# Altium footprint library Miscellaneous Devices LC.PcbLib: 559 footprints (part 35 of 35)
Each footprint in its own frame and in the unit in brackets; x right, y up, seen from the top. Pads: shape width x height; smd on the part's side, far side on the other; paste and mask are expansions set on the pad; w line width, h text height; cw(c..) or ccw(c..) is an arc to the next point about the centre after c.
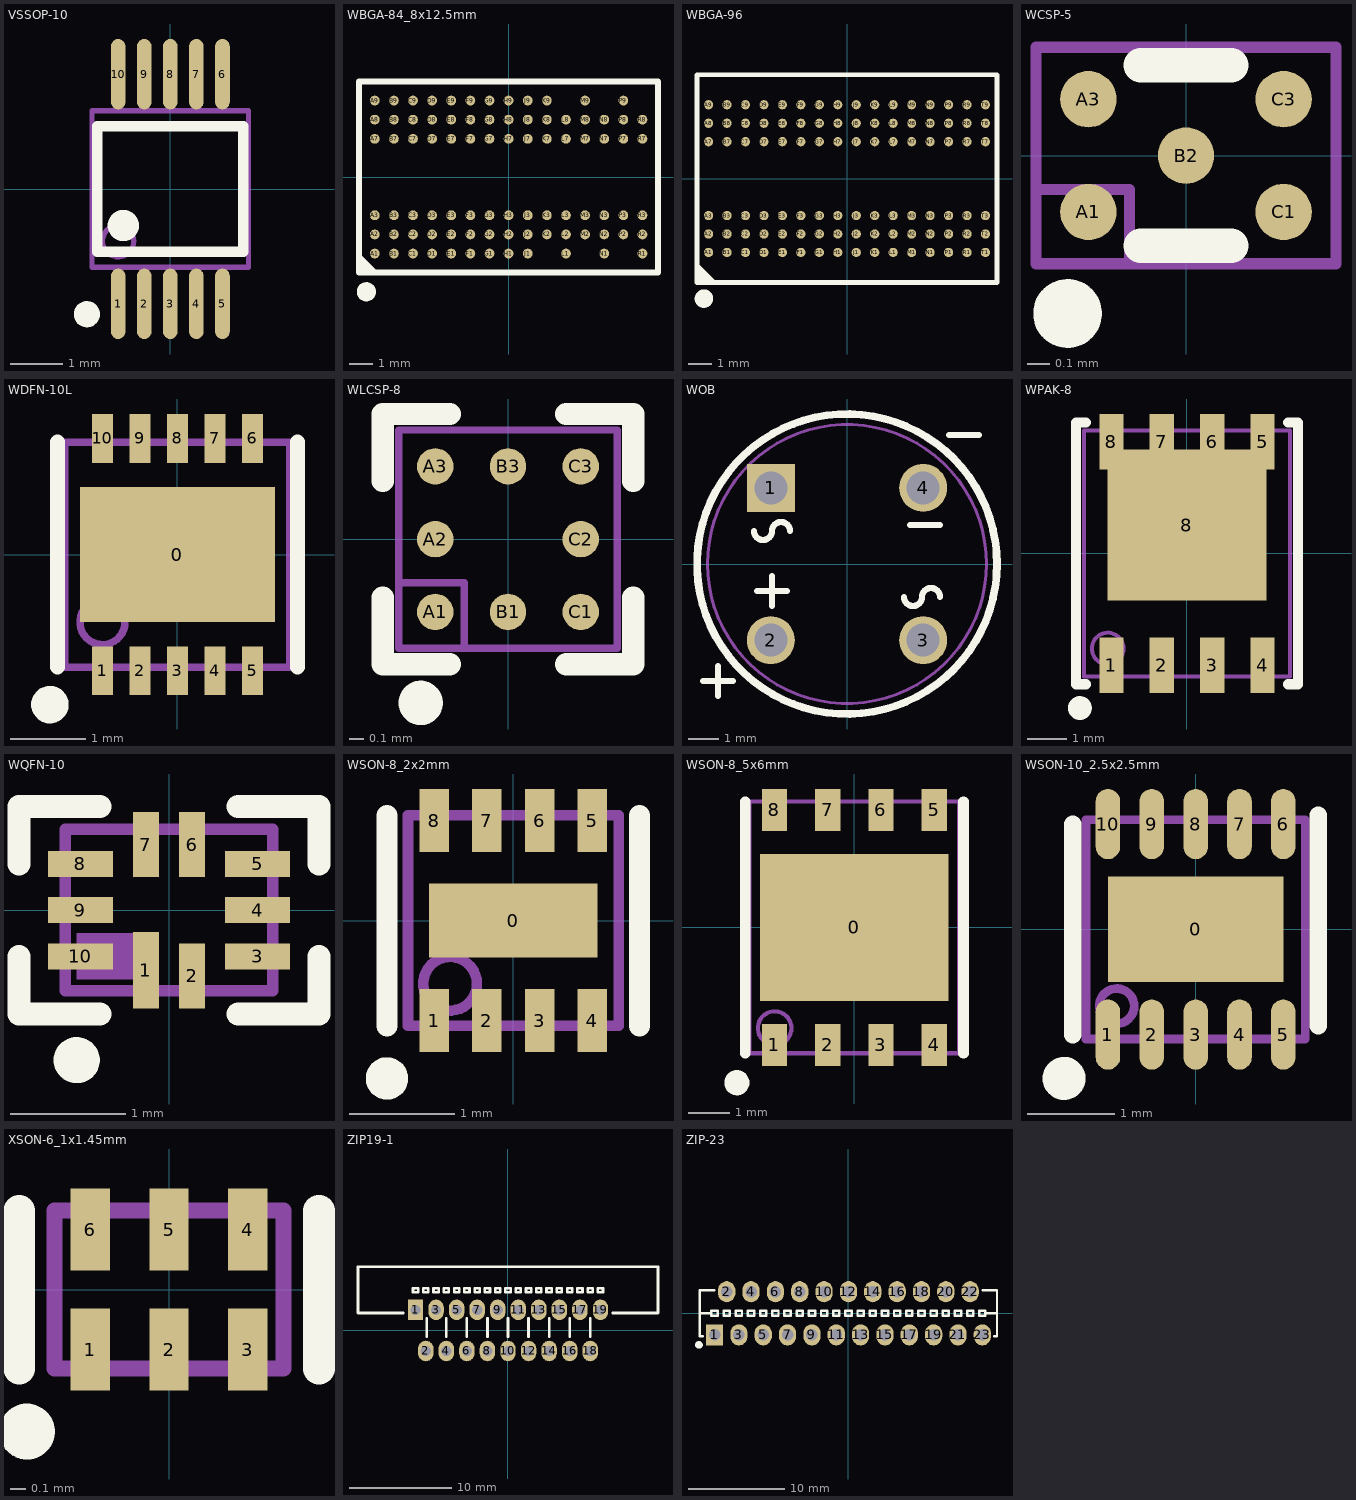
[diagram p34: the footprints below, top view; thin cyan lines are the x and y axes]

## VSSOP-10 [mm]
pads (10):
  oval 0.28x1.35 smd mask+0.051: 1(-1,-2.2) 2(-0.5,-2.2) 3(0,-2.2) 4(0.5,-2.2) 5(1,-2.2) 6(1,2.2) 7(0.5,2.2) 8(0,2.2) 9(-0.5,2.2) 10(-1,2.2)
Top Overlay:
  circle w0.25: c-1.6,-2.4 r0.125
  circle w0.35: c-0.9,-0.7 r0.125
  lines w0.2: -1.4,-1.2 -1.4,1.2 1.4,1.2 1.4,-1.2 -1.4,-1.2
Mechanical 13:
  circle w0.1: c-1,-1 r0.3
  lines w0.1: -1.5,-1.5 -1.5,1.5 1.5,1.5 1.5,-1.5 -1.5,-1.5

## WBGA-84_8x12.5mm [mm]
pads (84):
  round 0.41 smd mask+0.051: A1(-5.6,-3.2) A2(-5.6,-2.4) A3(-5.6,-1.6) A7(-5.6,1.6) A8(-5.6,2.4) A9(-5.6,3.2) B1(-4.8,-3.2) B2(-4.8,-2.4) B3(-4.8,-1.6) B7(-4.8,1.6) B8(-4.8,2.4) B9(-4.8,3.2) C1(-4,-3.2) C2(-4,-2.4) C3(-4,-1.6) C7(-4,1.6) C8(-4,2.4) C9(-4,3.2) D1(-3.2,-3.2) D2(-3.2,-2.4) D3(-3.2,-1.6) D7(-3.2,1.6) D8(-3.2,2.4) D9(-3.2,3.2) E1(-2.4,-3.2) E2(-2.4,-2.4) E3(-2.4,-1.6) E7(-2.4,1.6) E8(-2.4,2.4) E9(-2.4,3.2) F1(-1.6,-3.2) F2(-1.6,-2.4) F3(-1.6,-1.6) F7(-1.6,1.6) F8(-1.6,2.4) F9(-1.6,3.2) G1(-0.8,-3.2) G2(-0.8,-2.4) G3(-0.8,-1.6) G7(-0.8,1.6) G8(-0.8,2.4) G9(-0.8,3.2) H1(0,-3.2) H2(0,-2.4) H3(0,-1.6) H7(0,1.6) H8(0,2.4) H9(0,3.2) J1(0.8,-3.2) J2(0.8,-2.4) J3(0.8,-1.6) J7(0.8,1.6) J8(0.8,2.4) J9(0.8,3.2) K2(1.6,-2.4) K3(1.6,-1.6) K7(1.6,1.6) K8(1.6,2.4) K9(1.6,3.2) L1(2.4,-3.2) L2(2.4,-2.4) L3(2.4,-1.6) L7(2.4,1.6) L8(2.4,2.4) M2(3.2,-2.4) M3(3.2,-1.6) M7(3.2,1.6) M8(3.2,2.4) M9(3.2,3.2) N1(4,-3.2) N2(4,-2.4) N3(4,-1.6) N7(4,1.6) N8(4,2.4) P2(4.8,-2.4) P3(4.8,-1.6) P7(4.8,1.6) P8(4.8,2.4) P9(4.8,3.2) R1(5.6,-3.2) R2(5.6,-2.4) R3(5.6,-1.6) R7(5.6,1.6) R8(5.6,2.4)
Top Overlay:
  circle w0.4: c-5.95,-4.8 r0.2
  region: -6.3,-4.07 -5.369,-4.07 -6.296,-3.143 -6.3,-3.143
  lines w0.254: -6.25,-4 6.25,-4 6.25,4 -6.25,4 -6.25,-4

## WBGA-96 [mm]
pads (96):
  round 0.4 smd mask+0.051: A1(-6,-3.2) A2(-6,-2.4) A3(-6,-1.6) A7(-6,1.6) A8(-6,2.4) A9(-6,3.2) B1(-5.2,-3.2) B2(-5.2,-2.4) B3(-5.2,-1.6) B7(-5.2,1.6) B8(-5.2,2.4) B9(-5.2,3.2) C1(-4.4,-3.2) C2(-4.4,-2.4) C3(-4.4,-1.6) C7(-4.4,1.6) C8(-4.4,2.4) C9(-4.4,3.2) D1(-3.6,-3.2) D2(-3.6,-2.4) D3(-3.6,-1.6) D7(-3.6,1.6) D8(-3.6,2.4) D9(-3.6,3.2) E1(-2.8,-3.2) E2(-2.8,-2.4) E3(-2.8,-1.6) E7(-2.8,1.6) E8(-2.8,2.4) E9(-2.8,3.2) F1(-2,-3.2) F2(-2,-2.4) F3(-2,-1.6) F7(-2,1.6) F8(-2,2.4) F9(-2,3.2) G1(-1.2,-3.2) G2(-1.2,-2.4) G3(-1.2,-1.6) G7(-1.2,1.6) G8(-1.2,2.4) G9(-1.2,3.2) H1(-0.4,-3.2) H2(-0.4,-2.4) H3(-0.4,-1.6) H7(-0.4,1.6) H8(-0.4,2.4) H9(-0.4,3.2) J1(0.4,-3.2) J2(0.4,-2.4) J3(0.4,-1.6) J7(0.4,1.6) J8(0.4,2.4) J9(0.4,3.2) K1(1.2,-3.2) K2(1.2,-2.4) K3(1.2,-1.6) K7(1.2,1.6) K8(1.2,2.4) K9(1.2,3.2) L1(2,-3.2) L2(2,-2.4) L3(2,-1.6) L7(2,1.6) L8(2,2.4) L9(2,3.2) M1(2.8,-3.2) M2(2.8,-2.4) M3(2.8,-1.6) M7(2.8,1.6) M8(2.8,2.4) M9(2.8,3.2) N1(3.6,-3.2) N2(3.6,-2.4) N3(3.6,-1.6) N7(3.6,1.6) N8(3.6,2.4) N9(3.6,3.2) P1(4.4,-3.2) P2(4.4,-2.4) P3(4.4,-1.6) P7(4.4,1.6) P8(4.4,2.4) P9(4.4,3.2) R1(5.2,-3.2) R2(5.2,-2.4) R3(5.2,-1.6) R7(5.2,1.6) R8(5.2,2.4) R9(5.2,3.2) T1(6,-3.2) T2(6,-2.4) T3(6,-1.6) T7(6,1.6) T8(6,2.4) T9(6,3.2)
Top Overlay:
  circle w0.4: c-6.2,-5.2 r0.2
  region: -6.5,-4.563 -5.569,-4.563 -6.496,-3.637 -6.5,-3.637
  lines w0.2: -6.5,-4.5 -6.5,4.5 6.5,4.5 6.5,-4.5 -6.5,-4.5

## WCSP-5 [mm]
pads (5):
  round 0.25 smd mask+0.051: A1(-0.433,-0.25) A3(-0.433,0.25) B2(0,0) C1(0.433,-0.25) C3(0.433,0.25)
Top Overlay:
  circle w0.152: c-0.525,-0.7 r0.076
  lines w0.152: -0.2,-0.4 0.2,-0.4 ; -0.2,0.4 0.2,0.4
Mechanical 13:
  lines w0.05: -0.665,-0.15 -0.25,-0.15 -0.25,-0.48 ; -0.665,-0.48 0.665,-0.48 0.665,0.48 -0.665,0.48 -0.665,-0.48

## WDFN-10L [mm]
pads (11):
  rect 2.6x1.8 smd mask+0.051: 0(0,0)
  rect 0.28x0.65 smd mask+0.051: 1(-1,-1.55) 2(-0.5,-1.55) 3(0,-1.55) 4(0.5,-1.55) 5(1,-1.55) 6(1,1.55) 7(0.5,1.55) 8(0,1.55) 9(-0.5,1.55) 10(-1,1.55)
Top Overlay:
  circle w0.25: c-1.7,-2 r0.125
  lines w0.2: -1.6,-1.5 -1.6,1.5 ; 1.6,-1.5 1.6,1.5
Mechanical 13:
  circle w0.1: c-1,-0.9 r0.3
  lines w0.1: -1.5,-1.5 1.5,-1.5 1.5,1.5 -1.5,1.5 -1.5,-1.5

## WLCSP-8 [mm]
pads (8):
  round 0.25 smd mask+0.051: A1(-0.5,-0.5) A2(-0.5,0) A3(-0.5,0.5) B1(0,-0.5) B3(0,0.5) C1(0.5,-0.5) C2(0.5,0) C3(0.5,0.5)
Top Overlay:
  circle w0.152: c-0.6,-1.125 r0.076
  lines w0.152: -0.86,-0.4 -0.86,-0.86 -0.4,-0.86 ; -0.86,0.4 -0.86,0.86 -0.4,0.86 ; 0.4,-0.86 0.86,-0.86 0.86,-0.4 ; 0.4,0.86 0.86,0.86 0.86,0.4
Mechanical 13:
  lines w0.05: -0.75,-0.3 -0.3,-0.3 -0.3,-0.75 ; -0.75,-0.75 0.75,-0.75 0.75,0.75 -0.75,0.75 -0.75,-0.75

## WOB [mm]
pads (4):
  rect 1.6x1.6 hole 1.1: 1(-2.54,2.54)
  round 1.6 hole 1.1: 2(-2.54,-2.54) 3(2.54,-2.54) 4(2.54,2.54)
Top Overlay:
  circle w0.254: c0,0 r5
  lines w0.203: -4.8,-3.9 -3.8,-3.9 ; -4.3,-4.4 -4.3,-3.4 ; -3.1,1.1 ccw(c-2.8,1.1) -2.5,1.1 cw(c-2.2,1.1) -1.9,1.1 ; -3,-0.9 -2,-0.9 ; -2.5,-1.4 -2.5,-0.4 ; 1.9,-1.1 ccw(c2.2,-1.1) 2.5,-1.1 cw(c2.8,-1.1) 3.1,-1.1 ; 2.1,1.3 3.1,1.3 ; 3.4,4.3 4.4,4.3
Mechanical 13:
  circle w0.1: c0,0 r4.65

## WPAK-8 [mm]
pads (9):
  rect 0.61x1.4 smd: 1(-1.905,-2.816) 2(-0.635,-2.816) 3(0.635,-2.816) 4(1.905,-2.816) 5(1.905,2.816) 6(0.635,2.816) 7(-0.635,2.816) 8(-1.905,2.816)
  rect 4x3.81 smd: 8(0,0.716)
Top Overlay:
  circle w0.3: c-2.7,-3.9 r0.15
  lines w0.254: -2.55,-3.3 -2.8,-3.3 -2.8,3.3 -2.55,3.3 ; 2.55,-3.3 2.8,-3.3 2.8,3.3 2.55,3.3
Mechanical 13:
  circle w0.1: c-2,-2.4 r0.4
  lines w0.1: -2.6,-3.1 -2.6,3.1 2.6,3.1 2.6,-3.1 -2.6,-3.1

## WQFN-10 [mm]
pads (10):
  rect 0.225x0.663 smd mask+0.051: 1(-0.2,-0.519)
  rect 0.225x0.563 smd mask+0.051: 2(0.2,-0.569) 6(0.2,0.569) 7(-0.2,0.569)
  rect 0.563x0.225 smd mask+0.051: 3(0.768,-0.4) 4(0.768,0) 5(0.768,0.4) 8(-0.768,0.4) 9(-0.768,0) 10(-0.768,-0.4)
Top Overlay:
  circle w0.2: c-0.8,-1.3 r0.1
  lines w0.2: -1.3,-0.4 -1.3,-0.9 -0.6,-0.9 ; -1.3,0.4 -1.3,0.9 -0.6,0.9 ; 0.6,-0.9 1.3,-0.9 1.3,-0.4 ; 0.6,0.9 1.3,0.9 1.3,0.4
Mechanical 13:
  region: -0.3,-0.6 -0.3,-0.2 -0.8,-0.2 -0.8,-0.6
  lines w0.1: -0.9,-0.7 0.9,-0.7 0.9,0.7 -0.9,0.7 -0.9,-0.7

## WSON-8_2x2mm [mm]
pads (9):
  rect 1.6x0.7 smd mask+0.051: 0(0,0)
  rect 0.28x0.6 smd mask+0.051: 1(-0.75,-0.95) 2(-0.25,-0.95) 3(0.25,-0.95) 4(0.75,-0.95) 5(0.75,0.95) 6(0.25,0.95) 7(-0.25,0.95) 8(-0.75,0.95)
Top Overlay:
  circle w0.203: c-1.2,-1.5 r0.1
  lines w0.2: -1.2,-1 -1.2,1 ; 1.2,-1 1.2,1
Mechanical 13:
  circle w0.1: c-0.6,-0.6 r0.255
  lines w0.1: -1,-1 -1,1 1,1 1,-1 -1,-1

## WSON-8_5x6mm [mm]
pads (9):
  rect 4.5x3.5 smd: 0(0,0)
  rect 0.6x1 smd: 1(-1.905,-2.8) 2(-0.635,-2.8) 3(0.635,-2.8) 4(1.905,-2.8) 5(1.905,2.8) 6(0.635,2.8) 7(-0.635,2.8) 8(-1.905,2.8)
Top Overlay:
  circle w0.3: c-2.8,-3.7 r0.15
  lines w0.254: -2.6,-3 -2.6,3 ; 2.6,-3 2.6,3
Mechanical 13:
  circle w0.1: c-1.9,-2.4 r0.4
  lines w0.1: -2.5,-3 -2.5,3 2.5,3 2.5,-3 -2.5,-3

## WSON-10_2.5x2.5mm [mm]
pads (11):
  rect 2x1.2 smd mask+0.051: 0(0,0)
  oval 0.28x0.8 smd paste-0.025 mask+0.051: 1(-1,-1.2) 2(-0.5,-1.2) 3(0,-1.2) 4(0.5,-1.2) 5(1,-1.2) 6(1,1.2) 7(0.5,1.2) 8(0,1.2) 9(-0.5,1.2) 10(-1,1.2)
Top Overlay:
  circle w0.25: c-1.5,-1.7 r0.12
  lines w0.2: -1.4,-1.2 -1.4,1.2 ; 1.4,-1.1 1.4,1.3
Mechanical 13:
  circle w0.1: c-0.9,-0.875 r0.2
  lines w0.1: -1.25,-1.25 -1.25,1.25 1.25,1.25 1.25,-1.25 -1.25,-1.25

## XSON-6_1x1.45mm [mm]
pads (6):
  rect 0.25x0.52 smd mask+0.051: 1(-0.5,-0.38) 2(0,-0.38) 3(0.5,-0.38) 4(0.5,0.38) 5(0,0.38) 6(-0.5,0.38)
Top Overlay:
  circle w0.254: c-0.9,-0.9 r0.05
  lines w0.2: -0.95,-0.5 -0.95,0.5 ; 0.95,-0.5 0.95,0.5
Mechanical 13:
  lines w0.1: -0.725,-0.5 0.725,-0.5 0.725,0.5 -0.725,0.5 -0.725,-0.5

## ZIP19-1 [mm]
pads (19):
  rect 1.5x2 hole 1: 1(-9,2)
  oval 1.5x2 hole 1: 2(-8,-2) 3(-7,2) 4(-6,-2) 5(-5,2) 6(-4,-2) 7(-3,2) 8(-2,-2) 9(-1,2) 10(0,-2) 11(1,2) 12(2,-2) 13(3,2) 14(4,-2) 15(5,2) 16(6,-2) 17(7,2) 18(8,-2) 19(9,2)
Top Overlay:
  lines w0.254: -10.2,1.7 -14.6,1.7 -14.6,6.2 14.6,6.2 14.6,1.7 10.2,1.7 ; -7.9,-0.6 -7.9,1.2 ; -6,-0.6 -6,1.2 ; -4,-0.6 -4,1.2 ; -2,-0.6 -2,1.2 ; 0,-0.6 0,1.2 ; 2,-0.6 2,1.2 ; 4,-0.6 4,1.2 ; 6,-0.6 6,1.2 ; 8,-0.6 8,1.2 ; -9.25,3.7 -8.75,3.7 -8.75,4.1 -9.25,4.1 -9.25,3.7 ; -8.25,3.7 -8.25,4.1 -7.75,4.1 -7.75,3.7 -8.25,3.7 ; -7.25,3.7 -6.75,3.7 -6.75,4.1 -7.25,4.1 -7.25,3.7 ; -6.25,3.7 -6.25,4.1 -5.75,4.1 -5.75,3.7 -6.25,3.7 ; -5.25,3.7 -4.75,3.7 -4.75,4.1 -5.25,4.1 -5.25,3.7 ; -4.25,3.7 -4.25,4.1 -3.75,4.1 -3.75,3.7 -4.25,3.7 ; -3.25,3.7 -2.75,3.7 -2.75,4.1 -3.25,4.1 -3.25,3.7 ; -2.25,3.7 -2.25,4.1 -1.75,4.1 -1.75,3.7 -2.25,3.7 ; -1.25,3.7 -1.25,4.1 -0.75,4.1 -0.75,3.7 -1.25,3.7 ; -0.25,3.7 0.25,3.7 0.25,4.1 -0.25,4.1 -0.25,3.7 ; 0.75,3.7 1.25,3.7 1.25,4.1 0.75,4.1 0.75,3.7 ; 1.75,3.7 1.75,4.1 2.25,4.1 2.25,3.7 1.75,3.7 ; 2.75,3.7 3.25,3.7 3.25,4.1 2.75,4.1 2.75,3.7 ; 3.75,3.7 3.75,4.1 4.25,4.1 4.25,3.7 3.75,3.7 ; 4.75,3.7 5.25,3.7 5.25,4.1 4.75,4.1 4.75,3.7 ; 5.75,3.7 5.75,4.1 6.25,4.1 6.25,3.7 5.75,3.7 ; 6.75,3.7 7.25,3.7 7.25,4.1 6.75,4.1 6.75,3.7 ; 7.75,3.7 7.75,4.1 8.25,4.1 8.25,3.7 7.75,3.7 ; 8.75,3.7 9.25,3.7 9.25,4.1 8.75,4.1 8.75,3.7

## ZIP-23 [mm]
pads (23):
  rect 1.8x2.2 hole 1.2: 1(-13.97,-2.25)
  oval 1.8x2.2 hole 1.2: 2(-12.7,2.25) 3(-11.43,-2.25) 4(-10.16,2.25) 5(-8.89,-2.25) 6(-7.62,2.25) 7(-6.35,-2.25) 8(-5.08,2.25) 9(-3.81,-2.25) 10(-2.54,2.25) 11(-1.27,-2.25) 12(0,2.25) 13(1.27,-2.25) 14(2.54,2.25) 15(3.81,-2.25) 16(5.08,2.25) 17(6.35,-2.25) 18(7.62,2.25) 19(8.89,-2.25) 20(10.16,2.25) 21(11.43,-2.25) 22(12.7,2.25) 23(13.97,-2.25)
Top Overlay:
  circle w0.4: c-15.6,-3.3 r0.2
  lines w0.254: -15.5,0 -14.5,0 ; -15.2,-2.4 -15.5,-2.4 -15.5,2.4 -14,2.4 ; 14,2.4 15.5,2.4 15.5,-2.4 15.2,-2.4 ; 14.5,0 15.5,0 ; -14.295,-0.275 -14.295,0.275 -13.645,0.275 -13.645,-0.275 -14.295,-0.275 ; -13.025,-0.275 -12.375,-0.275 -12.375,0.275 -13.025,0.275 -13.025,-0.275 ; -11.755,-0.275 -11.755,0.275 -11.105,0.275 -11.105,-0.275 -11.755,-0.275 ; -10.485,-0.275 -9.835,-0.275 -9.835,0.275 -10.485,0.275 -10.485,-0.275 ; -9.215,-0.275 -9.215,0.275 -8.565,0.275 -8.565,-0.275 -9.215,-0.275 ; -7.945,-0.275 -7.295,-0.275 -7.295,0.275 -7.945,0.275 -7.945,-0.275 ; -6.675,-0.275 -6.675,0.275 -6.025,0.275 -6.025,-0.275 -6.675,-0.275 ; -5.405,-0.275 -4.755,-0.275 -4.755,0.275 -5.405,0.275 -5.405,-0.275 ; -4.135,-0.275 -4.135,0.275 -3.485,0.275 -3.485,-0.275 -4.135,-0.275 ; -2.865,-0.275 -2.215,-0.275 -2.215,0.275 -2.865,0.275 -2.865,-0.275 ; -1.595,-0.275 -0.945,-0.275 -0.945,0.275 -1.595,0.275 -1.595,-0.275 ; -0.325,-0.275 -0.325,0.275 0.325,0.275 0.325,-0.275 -0.325,-0.275 ; 0.945,-0.275 0.945,0.275 1.595,0.275 1.595,-0.275 0.945,-0.275 ; 2.215,-0.275 2.215,0.275 2.865,0.275 2.865,-0.275 2.215,-0.275 ; 3.485,-0.275 4.135,-0.275 4.135,0.275 3.485,0.275 3.485,-0.275 ; 4.755,-0.275 4.755,0.275 5.405,0.275 5.405,-0.275 4.755,-0.275 ; 6.025,-0.275 6.675,-0.275 6.675,0.275 6.025,0.275 6.025,-0.275 ; 7.295,-0.275 7.295,0.275 7.945,0.275 7.945,-0.275 7.295,-0.275 ; 8.565,-0.275 9.215,-0.275 9.215,0.275 8.565,0.275 8.565,-0.275 ; 9.835,-0.275 9.835,0.275 10.485,0.275 10.485,-0.275 9.835,-0.275 ; 11.105,-0.275 11.755,-0.275 11.755,0.275 11.105,0.275 11.105,-0.275 ; 12.375,-0.275 12.375,0.275 13.025,0.275 13.025,-0.275 12.375,-0.275 ; 13.645,-0.275 13.645,0.275 14.295,0.275 14.295,-0.275 13.645,-0.275